# Altium footprint library PET-06-01-S-VT-LC.PcbLib: 1 footprints
Each footprint in its own frame and in the unit in brackets; x right, y up, seen from the top. Pads: shape width x height; smd on the part's side, far side on the other; paste and mask are expansions set on the pad; w line width, h text height; cw(c..) or ccw(c..) is an arc to the next point about the centre after c.
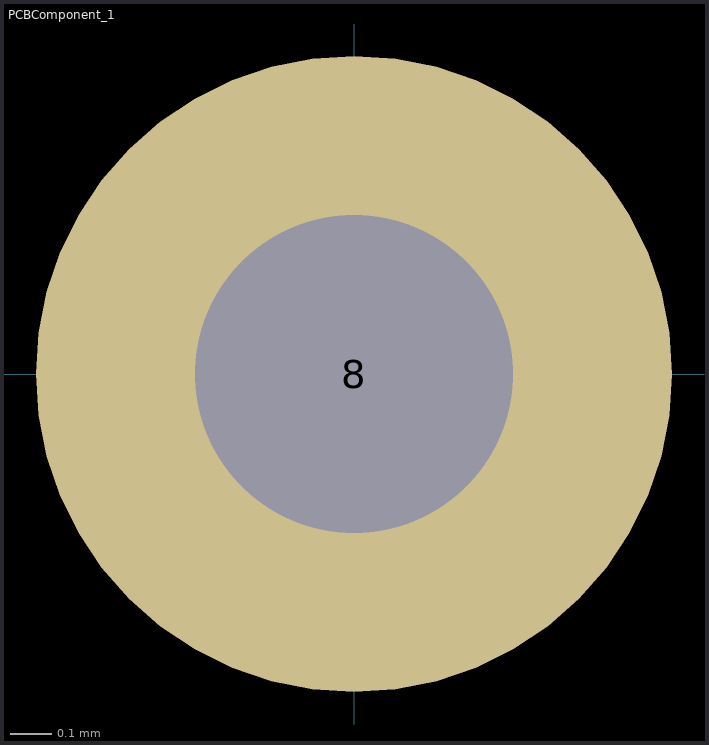
[diagram p0: the footprint, top view; thin cyan lines are the x and y axes]

## PCBComponent_1 [mil]
pads (1):
  round 60 hole 30: 8(0,0)
3D body "PET-06-01-S-VT-LC.stp": height 595.59, standoff -121.73, extent -1114.36,-525.42 1114.38,45.44